# EAGLE library part HEADER-1X8 (library LED_Matrix)
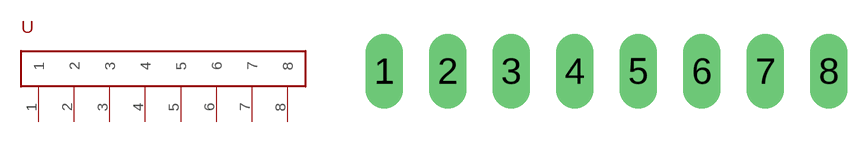
[diagram p0: symbol with the pads of HEADER-1X8; footprint HEADER-1X8]

Designator prefix -

## HEADER-1X8  [HEADER-1X8]
1  1
2  2
3  3
4  4
5  5
6  6
7  7
8  8

## Footprint HEADER-1X8 (pad centres in mm)
drill 1 long: 1 -8.89,0; 2 -6.35,0; 3 -3.81,0; 4 -1.27,0; 5 1.27,0; 6 3.81,0; 7 6.35,0; 8 8.89,0